# Altium schematic symbol library Other.SchLib: 80 symbols
Pins are listed as number, name and electrical type; pins without a type are passive.

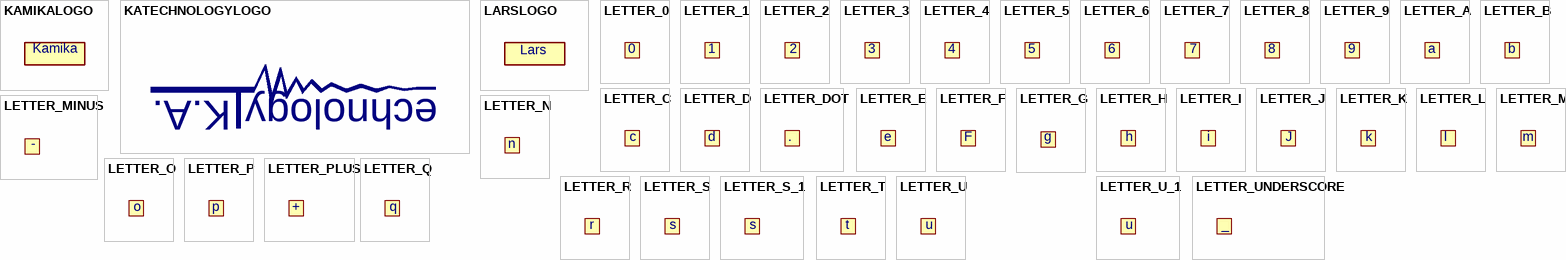
[diagram p0: symbols KAMIKALOGO to LETTER_UNDERSCORE]

## KAMIKALOGO
designator LOGO?  (value not drawn)  (no BOM)
Value: KAMIKALOGO
text: Kamika

## KATECHNOLOGYLOGO
designator LOGO?  (value not drawn)  (no BOM)
Value: KATECHNOLOGYLOGO
text: K.A.; echnology

## LARSLOGO
designator LOGO?  (value not drawn)  (no BOM)
Value: LARSLOGO
text: Lars

## LETTER_0
designator LETTER?  (value not drawn)  (no BOM)
Value: LETTER_0
text: 0

## LETTER_1
designator LETTER?  (value not drawn)  (no BOM)
Value: LETTER_1
text: 1

## LETTER_2
designator LETTER?  (value not drawn)  (no BOM)
Value: LETTER_2
text: 2

## LETTER_3
designator LETTER?, comment LETTER_I  (value not drawn)  (no BOM)
Value: LETTER_I
text: 3

## LETTER_4
designator LETTER?  (value not drawn)  (no BOM)
Value: LETTER_4
text: 4

## LETTER_5
designator LETTER?  (value not drawn)  (no BOM)
Value: LETTER_5
text: 5

## LETTER_6
designator LETTER?  (value not drawn)  (no BOM)
Value: LETTER_6
text: 6

## LETTER_7
designator LETTER?  (value not drawn)  (no BOM)
Value: LETTER_7
text: 7

## LETTER_8
designator LETTER?  (value not drawn)  (no BOM)
Value: LETTER_8
footprint LETTER_8_60_10_TL
footprint LETTER_8_60_10_TS
footprint LETTER_8_60_20_TS
text: 8

## LETTER_9
designator LETTER?  (value not drawn)  (no BOM)
Value: LETTER_9
footprint LETTER_9_60_10_TL
footprint LETTER_9_60_10_TS
footprint LETTER_9_60_20_TS
text: 9

## LETTER_A
designator LETTER?  (value not drawn)  (no BOM)
Value: LETTER_A
text: a

## LETTER_B
designator LETTER?  (value not drawn)  (no BOM)
Value: LETTER_B
text: b

## LETTER_C
designator LETTER?  (value not drawn)  (no BOM)
Value: LETTER_C
text: c

## LETTER_D
designator LETTER?, comment LETTER_C  (value not drawn)  (no BOM)
Value: LETTER_C
text: d

## LETTER_DOT
designator LETTER?  (value not drawn)  (no BOM)
Value: LETTER_DOT
text: .

## LETTER_E
designator LETTER?  (value not drawn)  (no BOM)
Value: LETTER_E
text: e

## LETTER_F
designator LETTER?  (value not drawn)  (no BOM)
Value: LETTER_F
footprint LETTERC_F_60_10_TL
footprint LETTERC_F_60_20_TS
footprint LETTERC_F_60_10_TS
text: F

## LETTER_G
designator LETTER?  (value not drawn)  (no BOM)
Value: LETTER_G
text: g

## LETTER_H
designator LETTER?  (value not drawn)  (no BOM)
Value: LETTER_H
text: h

## LETTER_I
designator LETTER?  (value not drawn)  (no BOM)
Value: LETTER_I
text: i

## LETTER_J
designator LETTER?, comment LETTER_I  (value not drawn)  (no BOM)
Value: LETTER_I
footprint LETTERC_J_60_10_TL
footprint LETTERC_J_60_20_TS
text: J

## LETTER_K
designator LETTER?  (value not drawn)  (no BOM)
Value: LETTER_K
text: k

## LETTER_L
designator LETTER?, comment LETTER_P  (value not drawn)  (no BOM)
Value: LETTER_P
text: l

## LETTER_M
designator LETTER?  (value not drawn)  (no BOM)
Value: LETTER_M
text: m

## LETTER_MINUS
designator LETTER?  (value not drawn)
Value: *
text: -

## LETTER_N
designator LETTER?  (value not drawn)  (no BOM)
Value: LETTER_N
text: n

## LETTER_O
designator LETTER?  (value not drawn)  (no BOM)
Value: LETTER_O
text: o

## LETTER_P
designator LETTER?  (value not drawn)  (no BOM)
Value: LETTER_P
text: p

## LETTER_PLUS
designator LETTER?  (value not drawn)
Value: *
text: +

## LETTER_Q
designator LETTER?  (value not drawn)  (no BOM)
Value: LETTER_Q
text: q

## LETTER_R
designator LETTER?  (value not drawn)  (no BOM)
Value: LETTER_R
text: r

## LETTER_S
designator LETTER?  (value not drawn)  (no BOM)
Value: LETTER_S
text: s

## LETTER_S_1
designator LETTER?, comment LETTER_S  (value not drawn)  (no BOM)
Value: LETTER_S
text: s

## LETTER_T
designator LETTER?  (value not drawn)  (no BOM)
Value: LETTER_T
text: t

## LETTER_U
designator LETTER?  (value not drawn)  (no BOM)
Value: LETTER_U
text: u

## LETTER_U_1
designator LETTER?, comment LETTER_U  (value not drawn)  (no BOM)
Value: LETTER_U
text: u

## LETTER_UNDERSCORE
designator LETTER?  (value not drawn)  (no BOM)
Value: LETTER_UNDERSCORE
text: _

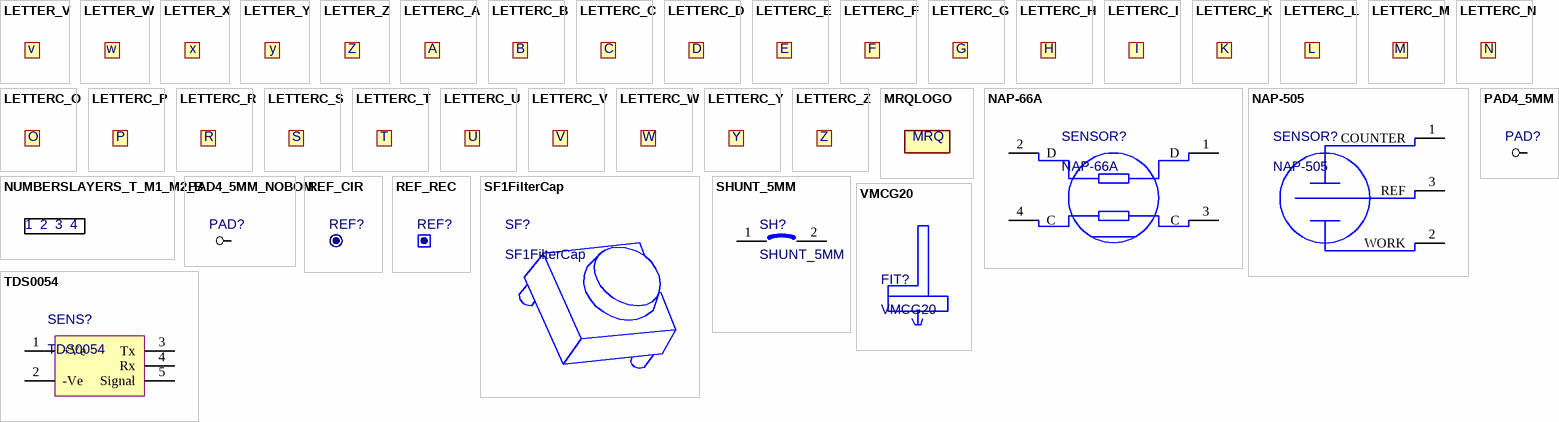
[diagram p1: symbols LETTER_V to VMCG20]

## LETTER_V
designator LETTER?  (value not drawn)  (no BOM)
Value: LETTER_V
text: v

## LETTER_W
designator LETTER?  (value not drawn)  (no BOM)
Value: LETTER_W
text: w

## LETTER_X
designator LETTER?  (value not drawn)  (no BOM)
Value: LETTER_X
text: x

## LETTER_Y
designator LETTER?, comment LETTER_V  (value not drawn)  (no BOM)
Value: LETTER_V
text: y

## LETTER_Z
designator LETTER?  (value not drawn)  (no BOM)
Value: LETTER_Z
text: Z

## LETTERC_A
designator LETTER?, comment LETTER_A_CAPITAL  (value not drawn)  (no BOM)
Value: LETTER_A_CAPITAL
text: A

## LETTERC_B
designator LETTER?, comment LETTER_B_CAPITAL  (value not drawn)  (no BOM)
Value: LETTER_B_CAPITAL
text: B

## LETTERC_C
designator LETTER?, comment LETTER_C  (value not drawn)  (no BOM)
Value: LETTER_C; ClassName: Letters
text: C

## LETTERC_D
designator LETTER?  (value not drawn)  (no BOM)
Value: LETTERC_D
text: D

## LETTERC_E
designator LETTER?  (value not drawn)  (no BOM)
Value: LETTERC_E
text: E

## LETTERC_F
designator LETTER?  (value not drawn)  (no BOM)
Value: LETTERC_F
text: F

## LETTERC_G
designator LETTER?  (value not drawn)  (no BOM)
Value: LETTERC_G
text: G

## LETTERC_H
designator LETTER?  (value not drawn)  (no BOM)
Value: LETTERC_H
text: H

## LETTERC_I
designator LETTER?  (value not drawn)  (no BOM)
Value: LETTERC_I
text: I

## LETTERC_K
designator LETTER?, comment LETTER_K  (value not drawn)  (no BOM)
Value: LETTER_K
text: K

## LETTERC_L
designator LETTER?, comment LETTER_L  (value not drawn)  (no BOM)
Value: LETTER_L
text: L

## LETTERC_M
designator LETTER?  (value not drawn)  (no BOM)
Value: LETTERC_M
text: M

## LETTERC_N
designator LETTER?  (value not drawn)  (no BOM)
Value: LETTERC_N
text: N

## LETTERC_O
designator LETTER?  (value not drawn)  (no BOM)
Value: LETTERC_O
text: O

## LETTERC_P
designator LETTER?  (value not drawn)  (no BOM)
Value: LETTERC_P
text: P

## LETTERC_R
designator LETTER?  (value not drawn)  (no BOM)
Value: LETTERC_R
text: R

## LETTERC_S
designator LETTER?  (value not drawn)  (no BOM)
Value: LETTERC_S
text: S

## LETTERC_T
designator LETTER?  (value not drawn)  (no BOM)
Value: LETTERC_T
text: T

## LETTERC_U
designator LETTER?  (value not drawn)  (no BOM)
Value: LETTERC_U
text: U

## LETTERC_V
designator LETTER?  (value not drawn)  (no BOM)
Value: LETTERC_V
text: V

## LETTERC_W
designator LETTER?  (value not drawn)  (no BOM)
Value: LETTERC_W
text: W

## LETTERC_Y
designator LETTER?  (value not drawn)  (no BOM)
Value: LETTERC_Y
text: Y

## LETTERC_Z
designator LETTER?  (value not drawn)  (no BOM)
Value: LETTERC_Z
text: Z

## MRQLOGO
designator LOGO?  (value not drawn)  (no BOM)
Value: MRQLOGO
text: MRQ

## NAP-66A
designator SENSOR?
Value: NAP-66A
pins: 1 D, 2 D, 3 C, 4 C

## NAP-505
designator SENSOR?
Value: NAP-505
pins: 1 COUNTER, 2 WORK, 3 REF

## NUMBERSLAYERS_T_M1_M2_B
designator NUMBERS?  (value not drawn)  (no BOM)
Value: NUMBERSLAYERS_T_M1_M2_B
text: 1; 2; 3; 4

## PAD4_5MM
designator PAD?  (value not drawn)
Value: PAD4_5MM
pins: 1

## PAD4_5MM_NOBOM
designator PAD?  (value not drawn)  (no BOM)
Value: *
pins: 1

## REF_CIR
designator REF?  (value not drawn)  (no BOM)
Value: *

## REF_REC
designator REF?  (value not drawn)  (no BOM)
Value: *

## SF1FilterCap
designator SF?  (mechanical)
Value: SF1FilterCap

## SHUNT_5MM
designator SH?
Value: SHUNT_5MM
pins: 1, 2

## TDS0054
designator SENS?
Value: TDS0054
pins: 1 +Ve, 2 -Ve, 3 Tx, 4 Rx, 5 Signal

## VMCG20
designator FIT?
Value: VMCG20